# Altium schematic symbol library LTC4063.SchLib: 1 symbol
Pins are listed as number, name and electrical type; pins without a type are passive.

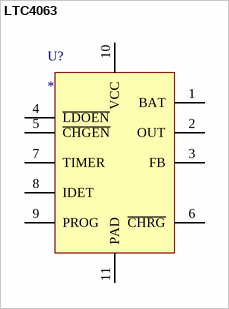
[diagram p0: symbol LTC4063]

## LTC4063
designator U?
Li-Ion Charger and Adjustable LDO
pins: 1 BAT, 2 OUT (power) "LDO Output", 3 FB, 4 ~{LDOEN}, 5 ~{CHGEN}, 6 ~{CHRG} (oc) "Open-Drain Charge Status Out", 7 TIMER "Connect Ctimer to GND", 8 IDET "Connect Rdet to GND to set Idetect", 9 PROG "Connect Rprog to GND to set CC", 10 VCC (power), 11 PAD (power)